# Altium schematic symbol library Video Encoder.SchLib: 1 symbol
Pins are listed as number, name and electrical type; pins without a type are passive.

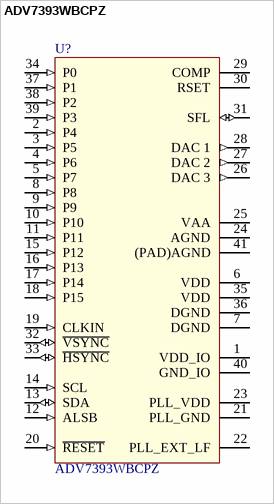
[diagram p0: symbol ADV7393WBCPZ]

## ADV7393WBCPZ
designator U?
Low Power, Chip Scale 10-Bit SD/HD Video Encoder; Value: ADV7393WBCPZ
footprint CP-40-9 (LFCSP, 40-Leads, Body 6.00x6.00mm, Pitch 0.50mm, Thermal Pad 4.10x4.10mm, IPC Medium Density)
pins: 1 VDD_IO (power) "Input/Output Digital Power Supply (1.8 V or 3.3 V)", 2 P4 (in), 3 P5 (in), 4 P6 (in), 5 P7 (in), 6 VDD (power) "Digital Power Supply (1.8 V)", 7 DGND (power), 8 P8 (in), 9 P9 (in), 10 P10 (in), 11 P11 (in), 12 ALSB (in) "ALSB sets up the LSB3 of the MPU I2", 13 SDA (io), 14 SCL (in), 15 P12 (in), 16 P13 (in), 17 P14 (in), 18 P15 (in), 19 CLKIN (in) "Pixel Clock Input for HD (74.25 MHz), ED2 (27 MHz or 54 MHz),", 20 ~{RESET} (in), 21 PLL_GND (power), 22 PLL_EXT_LF, 23 PLL_VDD (power) "PLL Power Supply (1.8 V)", 24 AGND (power), 25 VAA (power) "Analog Power Supply (2.7 V or 3.3 V)", 26 DAC 3 (out), 27 DAC 2 (out), 28 DAC 1 (out), 29 COMP, 30 RSET, 31 SFL (io), 32 ~{VSYNC} (io), 33 ~{HSYNC} (io), 34 P0 (in), 35 VDD (power) "Digital Power Supply (1.8 V)", 36 DGND (power), 37 P1 (in), 38 P2 (in), 39 P3 (in), 40 GND_IO (power), 41 (PAD)AGND (power)